# Altium integrated library Linear Technology Power Management System Supervisor, Monitor and Control.IntLib: 1611 symbols (part 65 of 100)
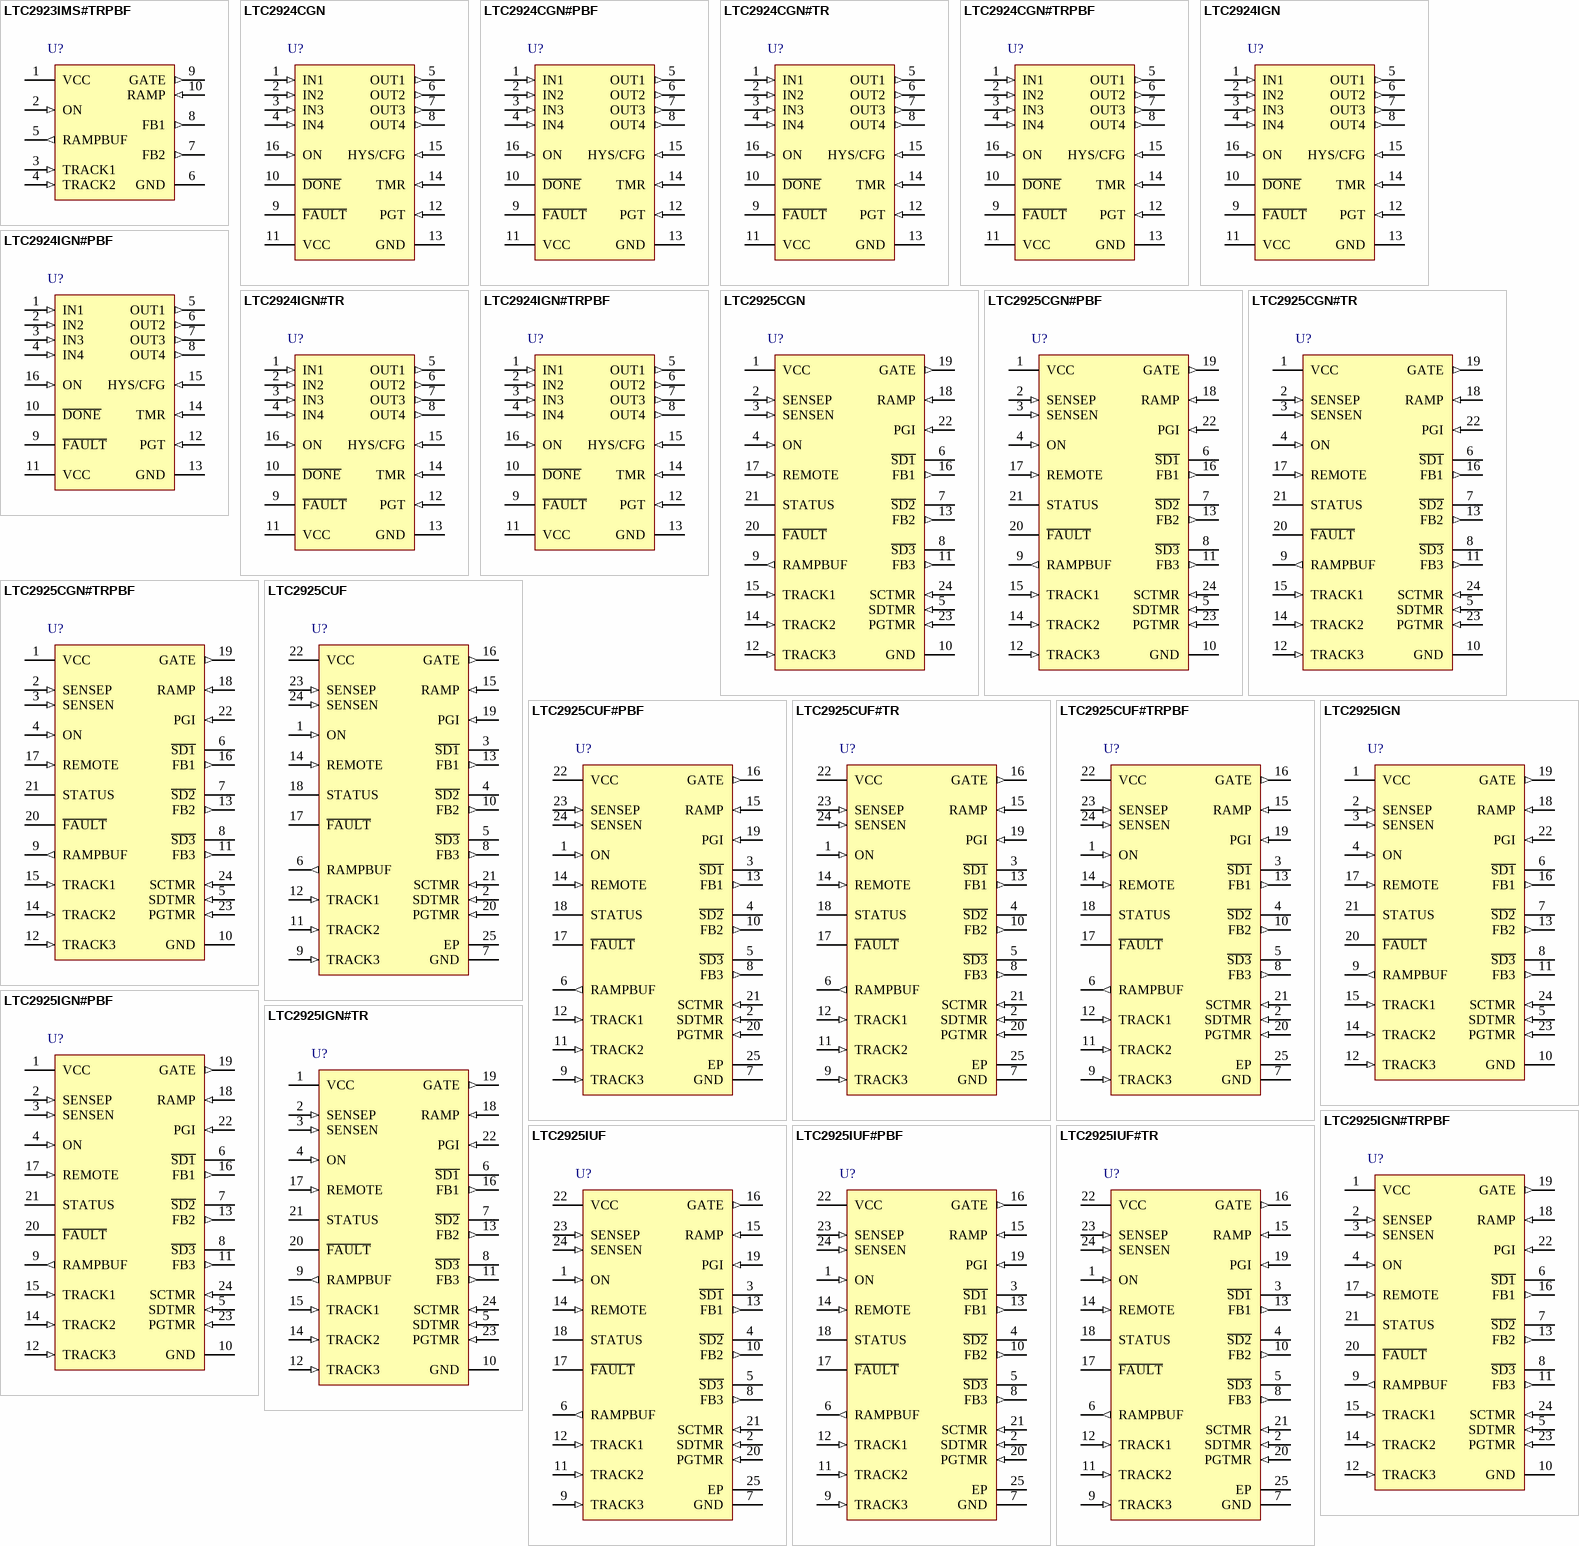
[diagram p109: symbols LTC2923IMS#TRPBF to LTC2925IUF#TR]

## LTC2925IGN
designator U?
Multiple Power Supply Tracking Controller with Power Good Timeout, 24-pin SOP (GN-24), -40 to 85 degC; Manufacturer: Linear Technology; PartNumber: LTC2925IGN; Number of Supplies(#): 4; DatasheetVersion: Rev. C; PackageVersion: Rev. B, 03/2012; PackageReference: GN24; PackageDescription: 24-Pin Plastic SSOP , Body 8.5 x 3.9 mm, Pitch 0.635 mm; Supplier 1: Digi-Key; Supplier Part Number 1: LTC2925IGN-ND; RoHS: FALSE; Mounting Technology: Surface Mount; ComponentLink1Description: Manufacturer URL; ComponentLink1URL: http://www.linear.com/; ComponentLink2Description: Datasheet; ComponentLink2URL: http://cds.linear.com/docs/en/datasheet/2925fc.pdf; ComponentLink3Description: Package Specification; ComponentLink3URL: http://cds.linear.com/docs/en/packaging/05081641_B_GN24.pdf
footprint LT-GN-24_N (SOP, 24-Leads, Body 8.7x4mm, Pitch 0.635mm, IPC Medium Density)
footprint LT-GN-24_L (SOP, 24-Leads, Body 8.7x4mm, Pitch 0.635mm, IPC High Density)
footprint LT-GN-24_M (SOP, 24-Leads, Body 8.7x4mm, Pitch 0.635mm, IPC Low Density)
pins: 1 VCC (power) "Positive Supply Input. The operating supply input range is 2.9V to 5.5V. An undervoltage lockout circuit resets the part when the supply is below 2.5V. VCC should be bypassed to GND with a 0.1uF capacitor", 2 SENSEP (in) "Circuit Breaker Positive Sense Input. SENSEP and SENSEN measure the voltage across the sense resistor and trigger the circuit breaker function when the current exceeds the level programmed by the sense resistor for longer (See Datasheet)", 3 SENSEN (in) "Circuit Breaker Negative Sense Input. SENSEN connects to the low side of the current sense resistor. SENSEP and SENSEN monitor the current through the external FET by measuring the voltage across the sense resistor. The (See Datasheet)", 4 ON (in) "On Control Input. The ON pin has a threshold of 1.23V with 75mV of hysteresis. An active high will cause 10uA to flow from the GATE pin, ramping up the supplies. An active low pulls 10uA from the GATE pin, ramping the (See Datasheet)", 5 SDTMR (in) "Shutdown Timer. A capacitor from SDTMR to GND sets the delay time between the ON pin transitioning high (which releases the S\D\x\ pins) and the supplies beginning to ramp-up. Float SDTMR when it is unused.", 6 ~{SD1} (oc) "Outputs for Slave Supply Shutdowns. The S\D\x\ pins are open-drain outputs that hold the shutdown (RUN/SS) pins of the slave supplies low until the ON pin is pulled above 1.23V. The S\D\x\ pins will be pulled low again when (See Datasheet)", 7 ~{SD2} (oc) "Outputs for Slave Supply Shutdowns. The S\D\x\ pins are open-drain outputs that hold the shutdown (RUN/SS) pins of the slave supplies low until the ON pin is pulled above 1.23V. The S\D\x\ pins will be pulled low again when (See Datasheet)", 8 ~{SD3} (oc) "Outputs for Slave Supply Shutdowns. The S\D\x\ pins are open-drain outputs that hold the shutdown (RUN/SS) pins of the slave supplies low until the ON pin is pulled above 1.23V. The S\D\x\ pins will be pulled low again when (See Datasheet)", 9 RAMPBUF (out) "Ramp Buffer Output. Provides a low impedance buffered version of the signal on the RAMP pin. This buffered output drives the resistive dividers that connect to the TRACKx pins. Limit the capacitance at the RAMPBUF pin to (See Datasheet)", 10 GND (power) "Circuit Ground", 11 FB3 (out) "Feedback Control Output. FBx connects to the feedback node of slave supplies. Tracking is achieved by mirroring the current from TRACKx into FBx. If the appropriate resistive divider connects RAMPBUF and TRACKx, the FBx (See Datasheet)", 12 TRACK3 (in) "Tracking Control Input Pin. A resistive divider between RAMPBUF, TRACKx and GND determines the tracking profi le of OUTx (see Applications Information). TRACKx pulls up to 0.8V and the current supplied at TRACKx is mirrored (See Datasheet)", 13 FB2 (out) "Feedback Control Output. FBx connects to the feedback node of slave supplies. Tracking is achieved by mirroring the current from TRACKx into FBx. If the appropriate resistive divider connects RAMPBUF and TRACKx, the FBx (See Datasheet)", 14 TRACK2 (in) "Tracking Control Input Pin. A resistive divider between RAMPBUF, TRACKx and GND determines the tracking profi le of OUTx (see Applications Information). TRACKx pulls up to 0.8V and the current supplied at TRACKx is mirrored (See Datasheet)", 15 TRACK1 (in) "Tracking Control Input Pin. A resistive divider between RAMPBUF, TRACKx and GND determines the tracking profi le of OUTx (see Applications Information). TRACKx pulls up to 0.8V and the current supplied at TRACKx is mirrored (See Datasheet)", 16 FB1 (out) "Feedback Control Output. FBx connects to the feedback node of slave supplies. Tracking is achieved by mirroring the current from TRACKx into FBx. If the appropriate resistive divider connects RAMPBUF and TRACKx, the FBx (See Datasheet)", 17 REMOTE (in) "Remote Sense Switch. A 15ohm switch connects REMOTE to RAMP when the GATE is fully enhanced (GATE > RAMP + 4.9V). Otherwise, it presents a high impedance. When the slave supplies track the master supply, REMOTE can be used (See Datasheet)", 18 RAMP (in) "Ramp Buffer Input. When the RAMP pin is connected to the source of the external N-channel FET, the slave supplies track the FET’s source as it ramps up and down. Alternatively, when no external FET is used, the RAMP pi(See Datasheet)", 19 GATE (out) "Gate Drive for External N-Channel FET. When the ON pin is high, an internal 10uA current source charges the gate of the external N-channel MOSFET.A capacitor connected from GATE to GND sets the ramp rate. It is a good (See Datasheet)", 20 ~{FAULT} (oc) "Circuit Breaker and Power Good Timer Fault Output. F\A\U\L\T\ is an open-drain output that pulls low when the electronic circuit breaker is activated or a power good timeout fault is detected. F\A\U\L\T\ is reset by pulling (See Datasheet)", 21 STATUS (hiz) "Power Good Status Indicator. The STATUS pin is an open-drain output that pulls low until GATE has been fully charged at which time all supplies will have reached their final operating voltage.", 22 PGI (in) "Power Good Timer Input. PGI connects to the R\S\T\ pin of the downstream supply monitor. If PGI has not transitioned high within a power good timer cycle (see PGTMR), the F\A\U\L\T\ pin will be pulled low and the supplies (See Datasheet)", 23 PGTMR (in) "Power Good Timer. A capacitor from PGTMR to GND sets the power good timer duration.While ON > 1.23V, the PGTMR pin will pull up to VCC with 10uA. Otherwise, it pulls to GND. If the voltage on the PGTMR pin exceeds 1.23V and (See Datasheet)", 24 SCTMR (in) "Circuit Breaker Timer. A capacitor from SCTMR to GND programs the maximum time that a short circuit can be sustained before GATE is pulled low. When (SENSEP - SENSEN) > 50mV, SCTMR will pull up with 50uA, otherwise it pulls (See Datasheet)"

## LTC2925IGN#PBF
designator U?
Multiple Power Supply Tracking Controller with Power Good Timeout, 24-pin SOP (GN-24), -40 to 85 degC, Pb-Free; Manufacturer: Linear Technology; PartNumber: LTC2925IGN#PBF; Number of Supplies(#): 4; DatasheetVersion: Rev. C; PackageVersion: Rev. B, 03/2012; PackageReference: GN24; PackageDescription: 24-Pin Plastic SSOP , Body 8.5 x 3.9 mm, Pitch 0.635 mm; Supplier 1: Digi-Key; Supplier Part Number 1: LTC2925IGN#PBF-ND; RoHS: TRUE; Mounting Technology: Surface Mount; ComponentLink1Description: Manufacturer URL; ComponentLink1URL: http://www.linear.com/; ComponentLink2Description: Datasheet; ComponentLink2URL: http://cds.linear.com/docs/en/datasheet/2925fc.pdf; ComponentLink3Description: Package Specification; ComponentLink3URL: http://cds.linear.com/docs/en/packaging/05081641_B_GN24.pdf
footprint LT-GN-24_N (SOP, 24-Leads, Body 8.7x4mm, Pitch 0.635mm, IPC Medium Density)
footprint LT-GN-24_L (SOP, 24-Leads, Body 8.7x4mm, Pitch 0.635mm, IPC High Density)
footprint LT-GN-24_M (SOP, 24-Leads, Body 8.7x4mm, Pitch 0.635mm, IPC Low Density)
pins: 1 VCC (power) "Positive Supply Input. The operating supply input range is 2.9V to 5.5V. An undervoltage lockout circuit resets the part when the supply is below 2.5V. VCC should be bypassed to GND with a 0.1uF capacitor", 2 SENSEP (in) "Circuit Breaker Positive Sense Input. SENSEP and SENSEN measure the voltage across the sense resistor and trigger the circuit breaker function when the current exceeds the level programmed by the sense resistor for longer (See Datasheet)", 3 SENSEN (in) "Circuit Breaker Negative Sense Input. SENSEN connects to the low side of the current sense resistor. SENSEP and SENSEN monitor the current through the external FET by measuring the voltage across the sense resistor. The (See Datasheet)", 4 ON (in) "On Control Input. The ON pin has a threshold of 1.23V with 75mV of hysteresis. An active high will cause 10uA to flow from the GATE pin, ramping up the supplies. An active low pulls 10uA from the GATE pin, ramping the (See Datasheet)", 5 SDTMR (in) "Shutdown Timer. A capacitor from SDTMR to GND sets the delay time between the ON pin transitioning high (which releases the S\D\x\ pins) and the supplies beginning to ramp-up. Float SDTMR when it is unused.", 6 ~{SD1} (oc) "Outputs for Slave Supply Shutdowns. The S\D\x\ pins are open-drain outputs that hold the shutdown (RUN/SS) pins of the slave supplies low until the ON pin is pulled above 1.23V. The S\D\x\ pins will be pulled low again when (See Datasheet)", 7 ~{SD2} (oc) "Outputs for Slave Supply Shutdowns. The S\D\x\ pins are open-drain outputs that hold the shutdown (RUN/SS) pins of the slave supplies low until the ON pin is pulled above 1.23V. The S\D\x\ pins will be pulled low again when (See Datasheet)", 8 ~{SD3} (oc) "Outputs for Slave Supply Shutdowns. The S\D\x\ pins are open-drain outputs that hold the shutdown (RUN/SS) pins of the slave supplies low until the ON pin is pulled above 1.23V. The S\D\x\ pins will be pulled low again when (See Datasheet)", 9 RAMPBUF (out) "Ramp Buffer Output. Provides a low impedance buffered version of the signal on the RAMP pin. This buffered output drives the resistive dividers that connect to the TRACKx pins. Limit the capacitance at the RAMPBUF pin to (See Datasheet)", 10 GND (power) "Circuit Ground", 11 FB3 (out) "Feedback Control Output. FBx connects to the feedback node of slave supplies. Tracking is achieved by mirroring the current from TRACKx into FBx. If the appropriate resistive divider connects RAMPBUF and TRACKx, the FBx (See Datasheet)", 12 TRACK3 (in) "Tracking Control Input Pin. A resistive divider between RAMPBUF, TRACKx and GND determines the tracking profi le of OUTx (see Applications Information). TRACKx pulls up to 0.8V and the current supplied at TRACKx is mirrored (See Datasheet)", 13 FB2 (out) "Feedback Control Output. FBx connects to the feedback node of slave supplies. Tracking is achieved by mirroring the current from TRACKx into FBx. If the appropriate resistive divider connects RAMPBUF and TRACKx, the FBx (See Datasheet)", 14 TRACK2 (in) "Tracking Control Input Pin. A resistive divider between RAMPBUF, TRACKx and GND determines the tracking profi le of OUTx (see Applications Information). TRACKx pulls up to 0.8V and the current supplied at TRACKx is mirrored (See Datasheet)", 15 TRACK1 (in) "Tracking Control Input Pin. A resistive divider between RAMPBUF, TRACKx and GND determines the tracking profi le of OUTx (see Applications Information). TRACKx pulls up to 0.8V and the current supplied at TRACKx is mirrored (See Datasheet)", 16 FB1 (out) "Feedback Control Output. FBx connects to the feedback node of slave supplies. Tracking is achieved by mirroring the current from TRACKx into FBx. If the appropriate resistive divider connects RAMPBUF and TRACKx, the FBx (See Datasheet)", 17 REMOTE (in) "Remote Sense Switch. A 15ohm switch connects REMOTE to RAMP when the GATE is fully enhanced (GATE > RAMP + 4.9V). Otherwise, it presents a high impedance. When the slave supplies track the master supply, REMOTE can be used (See Datasheet)", 18 RAMP (in) "Ramp Buffer Input. When the RAMP pin is connected to the source of the external N-channel FET, the slave supplies track the FET’s source as it ramps up and down. Alternatively, when no external FET is used, the RAMP pi(See Datasheet)", 19 GATE (out) "Gate Drive for External N-Channel FET. When the ON pin is high, an internal 10uA current source charges the gate of the external N-channel MOSFET.A capacitor connected from GATE to GND sets the ramp rate. It is a good (See Datasheet)", 20 ~{FAULT} (oc) "Circuit Breaker and Power Good Timer Fault Output. F\A\U\L\T\ is an open-drain output that pulls low when the electronic circuit breaker is activated or a power good timeout fault is detected. F\A\U\L\T\ is reset by pulling (See Datasheet)", 21 STATUS (hiz) "Power Good Status Indicator. The STATUS pin is an open-drain output that pulls low until GATE has been fully charged at which time all supplies will have reached their final operating voltage.", 22 PGI (in) "Power Good Timer Input. PGI connects to the R\S\T\ pin of the downstream supply monitor. If PGI has not transitioned high within a power good timer cycle (see PGTMR), the F\A\U\L\T\ pin will be pulled low and the supplies (See Datasheet)", 23 PGTMR (in) "Power Good Timer. A capacitor from PGTMR to GND sets the power good timer duration.While ON > 1.23V, the PGTMR pin will pull up to VCC with 10uA. Otherwise, it pulls to GND. If the voltage on the PGTMR pin exceeds 1.23V and (See Datasheet)", 24 SCTMR (in) "Circuit Breaker Timer. A capacitor from SCTMR to GND programs the maximum time that a short circuit can be sustained before GATE is pulled low. When (SENSEP - SENSEN) > 50mV, SCTMR will pull up with 50uA, otherwise it pulls (See Datasheet)"

## LTC2925IGN#TR
designator U?
Multiple Power Supply Tracking Controller with Power Good Timeout, 24-pin SOP (GN-24), -40 to 85 degC, Tape and Reel; Manufacturer: Linear Technology; PartNumber: LTC2925IGN#TR; Number of Supplies(#): 4; DatasheetVersion: Rev. C; PackageVersion: Rev. B, 03/2012; PackageReference: GN24; PackageDescription: 24-Pin Plastic SSOP , Body 8.5 x 3.9 mm, Pitch 0.635 mm; Supplier 1: Digi-Key; Supplier Part Number 1: LTC2925IGN#TR-ND; Packing: Tape and Reel; RoHS: FALSE; Mounting Technology: Surface Mount; ComponentLink1Description: Manufacturer URL; ComponentLink1URL: http://www.linear.com/; ComponentLink2Description: Datasheet; ComponentLink2URL: http://cds.linear.com/docs/en/datasheet/2925fc.pdf; ComponentLink3Description: Package Specification; ComponentLink3URL: http://cds.linear.com/docs/en/packaging/05081641_B_GN24.pdf
footprint LT-GN-24_N (SOP, 24-Leads, Body 8.7x4mm, Pitch 0.635mm, IPC Medium Density)
footprint LT-GN-24_L (SOP, 24-Leads, Body 8.7x4mm, Pitch 0.635mm, IPC High Density)
footprint LT-GN-24_M (SOP, 24-Leads, Body 8.7x4mm, Pitch 0.635mm, IPC Low Density)
pins: 1 VCC (power) "Positive Supply Input. The operating supply input range is 2.9V to 5.5V. An undervoltage lockout circuit resets the part when the supply is below 2.5V. VCC should be bypassed to GND with a 0.1uF capacitor", 2 SENSEP (in) "Circuit Breaker Positive Sense Input. SENSEP and SENSEN measure the voltage across the sense resistor and trigger the circuit breaker function when the current exceeds the level programmed by the sense resistor for longer (See Datasheet)", 3 SENSEN (in) "Circuit Breaker Negative Sense Input. SENSEN connects to the low side of the current sense resistor. SENSEP and SENSEN monitor the current through the external FET by measuring the voltage across the sense resistor. The (See Datasheet)", 4 ON (in) "On Control Input. The ON pin has a threshold of 1.23V with 75mV of hysteresis. An active high will cause 10uA to flow from the GATE pin, ramping up the supplies. An active low pulls 10uA from the GATE pin, ramping the (See Datasheet)", 5 SDTMR (in) "Shutdown Timer. A capacitor from SDTMR to GND sets the delay time between the ON pin transitioning high (which releases the S\D\x\ pins) and the supplies beginning to ramp-up. Float SDTMR when it is unused.", 6 ~{SD1} (oc) "Outputs for Slave Supply Shutdowns. The S\D\x\ pins are open-drain outputs that hold the shutdown (RUN/SS) pins of the slave supplies low until the ON pin is pulled above 1.23V. The S\D\x\ pins will be pulled low again when (See Datasheet)", 7 ~{SD2} (oc) "Outputs for Slave Supply Shutdowns. The S\D\x\ pins are open-drain outputs that hold the shutdown (RUN/SS) pins of the slave supplies low until the ON pin is pulled above 1.23V. The S\D\x\ pins will be pulled low again when (See Datasheet)", 8 ~{SD3} (oc) "Outputs for Slave Supply Shutdowns. The S\D\x\ pins are open-drain outputs that hold the shutdown (RUN/SS) pins of the slave supplies low until the ON pin is pulled above 1.23V. The S\D\x\ pins will be pulled low again when (See Datasheet)", 9 RAMPBUF (out) "Ramp Buffer Output. Provides a low impedance buffered version of the signal on the RAMP pin. This buffered output drives the resistive dividers that connect to the TRACKx pins. Limit the capacitance at the RAMPBUF pin to (See Datasheet)", 10 GND (power) "Circuit Ground", 11 FB3 (out) "Feedback Control Output. FBx connects to the feedback node of slave supplies. Tracking is achieved by mirroring the current from TRACKx into FBx. If the appropriate resistive divider connects RAMPBUF and TRACKx, the FBx (See Datasheet)", 12 TRACK3 (in) "Tracking Control Input Pin. A resistive divider between RAMPBUF, TRACKx and GND determines the tracking profi le of OUTx (see Applications Information). TRACKx pulls up to 0.8V and the current supplied at TRACKx is mirrored (See Datasheet)", 13 FB2 (out) "Feedback Control Output. FBx connects to the feedback node of slave supplies. Tracking is achieved by mirroring the current from TRACKx into FBx. If the appropriate resistive divider connects RAMPBUF and TRACKx, the FBx (See Datasheet)", 14 TRACK2 (in) "Tracking Control Input Pin. A resistive divider between RAMPBUF, TRACKx and GND determines the tracking profi le of OUTx (see Applications Information). TRACKx pulls up to 0.8V and the current supplied at TRACKx is mirrored (See Datasheet)", 15 TRACK1 (in) "Tracking Control Input Pin. A resistive divider between RAMPBUF, TRACKx and GND determines the tracking profi le of OUTx (see Applications Information). TRACKx pulls up to 0.8V and the current supplied at TRACKx is mirrored (See Datasheet)", 16 FB1 (out) "Feedback Control Output. FBx connects to the feedback node of slave supplies. Tracking is achieved by mirroring the current from TRACKx into FBx. If the appropriate resistive divider connects RAMPBUF and TRACKx, the FBx (See Datasheet)", 17 REMOTE (in) "Remote Sense Switch. A 15ohm switch connects REMOTE to RAMP when the GATE is fully enhanced (GATE > RAMP + 4.9V). Otherwise, it presents a high impedance. When the slave supplies track the master supply, REMOTE can be used (See Datasheet)", 18 RAMP (in) "Ramp Buffer Input. When the RAMP pin is connected to the source of the external N-channel FET, the slave supplies track the FET’s source as it ramps up and down. Alternatively, when no external FET is used, the RAMP pi(See Datasheet)", 19 GATE (out) "Gate Drive for External N-Channel FET. When the ON pin is high, an internal 10uA current source charges the gate of the external N-channel MOSFET.A capacitor connected from GATE to GND sets the ramp rate. It is a good (See Datasheet)", 20 ~{FAULT} (oc) "Circuit Breaker and Power Good Timer Fault Output. F\A\U\L\T\ is an open-drain output that pulls low when the electronic circuit breaker is activated or a power good timeout fault is detected. F\A\U\L\T\ is reset by pulling (See Datasheet)", 21 STATUS (hiz) "Power Good Status Indicator. The STATUS pin is an open-drain output that pulls low until GATE has been fully charged at which time all supplies will have reached their final operating voltage.", 22 PGI (in) "Power Good Timer Input. PGI connects to the R\S\T\ pin of the downstream supply monitor. If PGI has not transitioned high within a power good timer cycle (see PGTMR), the F\A\U\L\T\ pin will be pulled low and the supplies (See Datasheet)", 23 PGTMR (in) "Power Good Timer. A capacitor from PGTMR to GND sets the power good timer duration.While ON > 1.23V, the PGTMR pin will pull up to VCC with 10uA. Otherwise, it pulls to GND. If the voltage on the PGTMR pin exceeds 1.23V and (See Datasheet)", 24 SCTMR (in) "Circuit Breaker Timer. A capacitor from SCTMR to GND programs the maximum time that a short circuit can be sustained before GATE is pulled low. When (SENSEP - SENSEN) > 50mV, SCTMR will pull up with 50uA, otherwise it pulls (See Datasheet)"

## LTC2925IGN#TRPBF
designator U?
Multiple Power Supply Tracking Controller with Power Good Timeout, 24-pin SOP (GN-24), -40 to 85 degC, Pb-Free, Tape and Reel; Manufacturer: Linear Technology; PartNumber: LTC2925IGN#TRPBF; Number of Supplies(#): 4; DatasheetVersion: Rev. C; PackageVersion: Rev. B, 03/2012; PackageReference: GN24; PackageDescription: 24-Pin Plastic SSOP , Body 8.5 x 3.9 mm, Pitch 0.635 mm; Supplier 1: Digi-Key; Supplier Part Number 1: LTC2925IGN#TRPBF-ND; Packing: Tape and Reel; RoHS: TRUE; Mounting Technology: Surface Mount; ComponentLink1Description: Manufacturer URL; ComponentLink1URL: http://www.linear.com/; ComponentLink2Description: Datasheet; ComponentLink2URL: http://cds.linear.com/docs/en/datasheet/2925fc.pdf; ComponentLink3Description: Package Specification; ComponentLink3URL: http://cds.linear.com/docs/en/packaging/05081641_B_GN24.pdf
footprint LT-GN-24_N (SOP, 24-Leads, Body 8.7x4mm, Pitch 0.635mm, IPC Medium Density)
footprint LT-GN-24_L (SOP, 24-Leads, Body 8.7x4mm, Pitch 0.635mm, IPC High Density)
footprint LT-GN-24_M (SOP, 24-Leads, Body 8.7x4mm, Pitch 0.635mm, IPC Low Density)
pins: 1 VCC (power) "Positive Supply Input. The operating supply input range is 2.9V to 5.5V. An undervoltage lockout circuit resets the part when the supply is below 2.5V. VCC should be bypassed to GND with a 0.1uF capacitor", 2 SENSEP (in) "Circuit Breaker Positive Sense Input. SENSEP and SENSEN measure the voltage across the sense resistor and trigger the circuit breaker function when the current exceeds the level programmed by the sense resistor for longer (See Datasheet)", 3 SENSEN (in) "Circuit Breaker Negative Sense Input. SENSEN connects to the low side of the current sense resistor. SENSEP and SENSEN monitor the current through the external FET by measuring the voltage across the sense resistor. The (See Datasheet)", 4 ON (in) "On Control Input. The ON pin has a threshold of 1.23V with 75mV of hysteresis. An active high will cause 10uA to flow from the GATE pin, ramping up the supplies. An active low pulls 10uA from the GATE pin, ramping the (See Datasheet)", 5 SDTMR (in) "Shutdown Timer. A capacitor from SDTMR to GND sets the delay time between the ON pin transitioning high (which releases the S\D\x\ pins) and the supplies beginning to ramp-up. Float SDTMR when it is unused.", 6 ~{SD1} (oc) "Outputs for Slave Supply Shutdowns. The S\D\x\ pins are open-drain outputs that hold the shutdown (RUN/SS) pins of the slave supplies low until the ON pin is pulled above 1.23V. The S\D\x\ pins will be pulled low again when (See Datasheet)", 7 ~{SD2} (oc) "Outputs for Slave Supply Shutdowns. The S\D\x\ pins are open-drain outputs that hold the shutdown (RUN/SS) pins of the slave supplies low until the ON pin is pulled above 1.23V. The S\D\x\ pins will be pulled low again when (See Datasheet)", 8 ~{SD3} (oc) "Outputs for Slave Supply Shutdowns. The S\D\x\ pins are open-drain outputs that hold the shutdown (RUN/SS) pins of the slave supplies low until the ON pin is pulled above 1.23V. The S\D\x\ pins will be pulled low again when (See Datasheet)", 9 RAMPBUF (out) "Ramp Buffer Output. Provides a low impedance buffered version of the signal on the RAMP pin. This buffered output drives the resistive dividers that connect to the TRACKx pins. Limit the capacitance at the RAMPBUF pin to (See Datasheet)", 10 GND (power) "Circuit Ground", 11 FB3 (out) "Feedback Control Output. FBx connects to the feedback node of slave supplies. Tracking is achieved by mirroring the current from TRACKx into FBx. If the appropriate resistive divider connects RAMPBUF and TRACKx, the FBx (See Datasheet)", 12 TRACK3 (in) "Tracking Control Input Pin. A resistive divider between RAMPBUF, TRACKx and GND determines the tracking profi le of OUTx (see Applications Information). TRACKx pulls up to 0.8V and the current supplied at TRACKx is mirrored (See Datasheet)", 13 FB2 (out) "Feedback Control Output. FBx connects to the feedback node of slave supplies. Tracking is achieved by mirroring the current from TRACKx into FBx. If the appropriate resistive divider connects RAMPBUF and TRACKx, the FBx (See Datasheet)", 14 TRACK2 (in) "Tracking Control Input Pin. A resistive divider between RAMPBUF, TRACKx and GND determines the tracking profi le of OUTx (see Applications Information). TRACKx pulls up to 0.8V and the current supplied at TRACKx is mirrored (See Datasheet)", 15 TRACK1 (in) "Tracking Control Input Pin. A resistive divider between RAMPBUF, TRACKx and GND determines the tracking profi le of OUTx (see Applications Information). TRACKx pulls up to 0.8V and the current supplied at TRACKx is mirrored (See Datasheet)", 16 FB1 (out) "Feedback Control Output. FBx connects to the feedback node of slave supplies. Tracking is achieved by mirroring the current from TRACKx into FBx. If the appropriate resistive divider connects RAMPBUF and TRACKx, the FBx (See Datasheet)", 17 REMOTE (in) "Remote Sense Switch. A 15ohm switch connects REMOTE to RAMP when the GATE is fully enhanced (GATE > RAMP + 4.9V). Otherwise, it presents a high impedance. When the slave supplies track the master supply, REMOTE can be used (See Datasheet)", 18 RAMP (in) "Ramp Buffer Input. When the RAMP pin is connected to the source of the external N-channel FET, the slave supplies track the FET’s source as it ramps up and down. Alternatively, when no external FET is used, the RAMP pi(See Datasheet)", 19 GATE (out) "Gate Drive for External N-Channel FET. When the ON pin is high, an internal 10uA current source charges the gate of the external N-channel MOSFET.A capacitor connected from GATE to GND sets the ramp rate. It is a good (See Datasheet)", 20 ~{FAULT} (oc) "Circuit Breaker and Power Good Timer Fault Output. F\A\U\L\T\ is an open-drain output that pulls low when the electronic circuit breaker is activated or a power good timeout fault is detected. F\A\U\L\T\ is reset by pulling (See Datasheet)", 21 STATUS (hiz) "Power Good Status Indicator. The STATUS pin is an open-drain output that pulls low until GATE has been fully charged at which time all supplies will have reached their final operating voltage.", 22 PGI (in) "Power Good Timer Input. PGI connects to the R\S\T\ pin of the downstream supply monitor. If PGI has not transitioned high within a power good timer cycle (see PGTMR), the F\A\U\L\T\ pin will be pulled low and the supplies (See Datasheet)", 23 PGTMR (in) "Power Good Timer. A capacitor from PGTMR to GND sets the power good timer duration.While ON > 1.23V, the PGTMR pin will pull up to VCC with 10uA. Otherwise, it pulls to GND. If the voltage on the PGTMR pin exceeds 1.23V and (See Datasheet)", 24 SCTMR (in) "Circuit Breaker Timer. A capacitor from SCTMR to GND programs the maximum time that a short circuit can be sustained before GATE is pulled low. When (SENSEP - SENSEN) > 50mV, SCTMR will pull up with 50uA, otherwise it pulls (See Datasheet)"

## LTC2925IUF
designator U?
Multiple Power Supply Tracking Controller with Power Good Timeout, 24-pin QFN (UF-24), -40 to 85 degC; Manufacturer: Linear Technology; PartNumber: LTC2925IUF; Number of Supplies(#): 4; DatasheetVersion: Rev. C; PackageVersion: Rev. B, 02/2012; PackageReference: UF24; PackageDescription: 24-Pin Plastic QFN, Body 4 x 4 mm, Pitch 0.5 mm; Supplier 1: Digi-Key; Supplier Part Number 1: LTC2925IUF-ND; RoHS: FALSE; Mounting Technology: Surface Mount; Code_JEDEC: MO-220; ComponentLink1Description: Manufacturer URL; ComponentLink1URL: http://www.linear.com/; ComponentLink2Description: Datasheet; ComponentLink2URL: http://cds.linear.com/docs/en/datasheet/2925fc.pdf; ComponentLink3Description: Package Specification; ComponentLink3URL: http://cds.linear.com/docs/en/packaging/%28UF24%29%20QFN%2005-08-1697%20Rev%20B.pdf
footprint LT-UF-24_N (QFN, 24-Leads, Body 4.1x4.1mm, Pitch 0.5mm, Thermal Pad 2.45x2.45mm, IPC Medium Density)
footprint LT-UF-24_L (QFN, 24-Leads, Body 4.1x4.1mm, Pitch 0.5mm, Thermal Pad 2.45x2.45mm, IPC High Density)
footprint LT-UF-24_M (QFN, 24-Leads, Body 4.1x4.1mm, Pitch 0.5mm, Thermal Pad 2.45x2.45mm, IPC Low Density)
pins: 1 ON (in) "On Control Input. The ON pin has a threshold of 1.23V with 75mV of hysteresis. An active high will cause 10uA to flow from the GATE pin, ramping up the supplies. An active low pulls 10uA from the GATE pin, ramping the (See Datasheet)", 2 SDTMR (in) "Shutdown Timer. A capacitor from SDTMR to GND sets the delay time between the ON pin transitioning high (which releases the S\D\x\ pins) and the supplies beginning to ramp-up. Float SDTMR when it is unused.", 3 ~{SD1} (oc) "Outputs for Slave Supply Shutdowns. The S\D\x\ pins are open-drain outputs that hold the shutdown (RUN/SS) pins of the slave supplies low until the ON pin is pulled above 1.23V. The S\D\x\ pins will be pulled low again when (See Datasheet)", 4 ~{SD2} (oc) "Outputs for Slave Supply Shutdowns. The S\D\x\ pins are open-drain outputs that hold the shutdown (RUN/SS) pins of the slave supplies low until the ON pin is pulled above 1.23V. The S\D\x\ pins will be pulled low again when (See Datasheet)", 5 ~{SD3} (oc) "Outputs for Slave Supply Shutdowns. The S\D\x\ pins are open-drain outputs that hold the shutdown (RUN/SS) pins of the slave supplies low until the ON pin is pulled above 1.23V. The S\D\x\ pins will be pulled low again when (See Datasheet)", 6 RAMPBUF (out) "Ramp Buffer Output. Provides a low impedance buffered version of the signal on the RAMP pin. This buffered output drives the resistive dividers that connect to the TRACKx pins. Limit the capacitance at the RAMPBUF pin to (See Datasheet)", 7 GND (power) "Circuit Ground", 8 FB3 (out) "Feedback Control Output. FBx connects to the feedback node of slave supplies. Tracking is achieved by mirroring the current from TRACKx into FBx. If the appropriate resistive divider connects RAMPBUF and TRACKx, the FBx (See Datasheet)", 9 TRACK3 (in) "Tracking Control Input Pin. A resistive divider between RAMPBUF, TRACKx and GND determines the tracking profi le of OUTx (see Applications Information). TRACKx pulls up to 0.8V and the current supplied at TRACKx is mirrored (See Datasheet)", 10 FB2 (out) "Feedback Control Output. FBx connects to the feedback node of slave supplies. Tracking is achieved by mirroring the current from TRACKx into FBx. If the appropriate resistive divider connects RAMPBUF and TRACKx, the FBx (See Datasheet)", 11 TRACK2 (in) "Tracking Control Input Pin. A resistive divider between RAMPBUF, TRACKx and GND determines the tracking profi le of OUTx (see Applications Information). TRACKx pulls up to 0.8V and the current supplied at TRACKx is mirrored (See Datasheet)", 12 TRACK1 (in) "Tracking Control Input Pin. A resistive divider between RAMPBUF, TRACKx and GND determines the tracking profi le of OUTx (see Applications Information). TRACKx pulls up to 0.8V and the current supplied at TRACKx is mirrored (See Datasheet)", 13 FB1 (out) "Feedback Control Output. FBx connects to the feedback node of slave supplies. Tracking is achieved by mirroring the current from TRACKx into FBx. If the appropriate resistive divider connects RAMPBUF and TRACKx, the FBx (See Datasheet)", 14 REMOTE (in) "Remote Sense Switch. A 15ohm switch connects REMOTE to RAMP when the GATE is fully enhanced (GATE > RAMP + 4.9V). Otherwise, it presents a high impedance. When the slave supplies track the master supply, REMOTE can be used (See Datasheet)", 15 RAMP (in) "Ramp Buffer Input. When the RAMP pin is connected to the source of the external N-channel FET, the slave supplies track the FET’s source as it ramps up and down. Alternatively, when no external FET is used, the RAMP pi(See Datasheet)", 16 GATE (out) "Gate Drive for External N-Channel FET. When the ON pin is high, an internal 10uA current source charges the gate of the external N-channel MOSFET.A capacitor connected from GATE to GND sets the ramp rate. It is a good (See Datasheet)", 17 ~{FAULT} (oc) "Circuit Breaker and Power Good Timer Fault Output. F\A\U\L\T\ is an open-drain output that pulls low when the electronic circuit breaker is activated or a power good timeout fault is detected. F\A\U\L\T\ is reset by pulling (See Datasheet)", 18 STATUS (hiz) "Power Good Status Indicator. The STATUS pin is an open-drain output that pulls low until GATE has been fully charged at which time all supplies will have reached their final operating voltage.", 19 PGI (in) "Power Good Timer Input. PGI connects to the R\S\T\ pin of the downstream supply monitor. If PGI has not transitioned high within a power good timer cycle (see PGTMR), the F\A\U\L\T\ pin will be pulled low and the supplies (See Datasheet)", 20 PGTMR (in) "Power Good Timer. A capacitor from PGTMR to GND sets the power good timer duration.While ON > 1.23V, the PGTMR pin will pull up to VCC with 10uA. Otherwise, it pulls to GND. If the voltage on the PGTMR pin exceeds 1.23V and (See Datasheet)", 21 SCTMR (in) "Circuit Breaker Timer. A capacitor from SCTMR to GND programs the maximum time that a short circuit can be sustained before GATE is pulled low. When (SENSEP - SENSEN) > 50mV, SCTMR will pull up with 50uA, otherwise it pulls (See Datasheet)", 22 VCC (power) "Positive Supply Input. The operating supply input range is 2.9V to 5.5V. An undervoltage lockout circuit resets the part when the supply is below 2.5V. VCC should be bypassed to GND with a 0.1uF capacitor", 23 SENSEP (in) "Circuit Breaker Positive Sense Input. SENSEP and SENSEN measure the voltage across the sense resistor and trigger the circuit breaker function when the current exceeds the level programmed by the sense resistor for longer (See Datasheet)", 24 SENSEN (in) "Circuit Breaker Negative Sense Input. SENSEN connects to the low side of the current sense resistor. SENSEP and SENSEN monitor the current through the external FET by measuring the voltage across the sense resistor. The (See Datasheet)", 25 EP (power) "Circuit Ground"

## LTC2925IUF#PBF
designator U?
Multiple Power Supply Tracking Controller with Power Good Timeout, 24-pin QFN (UF-24), -40 to 85 degC, Pb-Free; Manufacturer: Linear Technology; PartNumber: LTC2925IUF#PBF; Number of Supplies(#): 4; DatasheetVersion: Rev. C; PackageVersion: Rev. B, 02/2012; PackageReference: UF24; PackageDescription: 24-Pin Plastic QFN, Body 4 x 4 mm, Pitch 0.5 mm; Supplier 1: Digi-Key; Supplier Part Number 1: LTC2925IUF#PBF-ND; RoHS: TRUE; Mounting Technology: Surface Mount; Code_JEDEC: MO-220; ComponentLink1Description: Manufacturer URL; ComponentLink1URL: http://www.linear.com/; ComponentLink2Description: Datasheet; ComponentLink2URL: http://cds.linear.com/docs/en/datasheet/2925fc.pdf; ComponentLink3Description: Package Specification; ComponentLink3URL: http://cds.linear.com/docs/en/packaging/%28UF24%29%20QFN%2005-08-1697%20Rev%20B.pdf
footprint LT-UF-24_N (QFN, 24-Leads, Body 4.1x4.1mm, Pitch 0.5mm, Thermal Pad 2.45x2.45mm, IPC Medium Density)
footprint LT-UF-24_L (QFN, 24-Leads, Body 4.1x4.1mm, Pitch 0.5mm, Thermal Pad 2.45x2.45mm, IPC High Density)
footprint LT-UF-24_M (QFN, 24-Leads, Body 4.1x4.1mm, Pitch 0.5mm, Thermal Pad 2.45x2.45mm, IPC Low Density)
pins: 1 ON (in) "On Control Input. The ON pin has a threshold of 1.23V with 75mV of hysteresis. An active high will cause 10uA to flow from the GATE pin, ramping up the supplies. An active low pulls 10uA from the GATE pin, ramping the (See Datasheet)", 2 SDTMR (in) "Shutdown Timer. A capacitor from SDTMR to GND sets the delay time between the ON pin transitioning high (which releases the S\D\x\ pins) and the supplies beginning to ramp-up. Float SDTMR when it is unused.", 3 ~{SD1} (oc) "Outputs for Slave Supply Shutdowns. The S\D\x\ pins are open-drain outputs that hold the shutdown (RUN/SS) pins of the slave supplies low until the ON pin is pulled above 1.23V. The S\D\x\ pins will be pulled low again when (See Datasheet)", 4 ~{SD2} (oc) "Outputs for Slave Supply Shutdowns. The S\D\x\ pins are open-drain outputs that hold the shutdown (RUN/SS) pins of the slave supplies low until the ON pin is pulled above 1.23V. The S\D\x\ pins will be pulled low again when (See Datasheet)", 5 ~{SD3} (oc) "Outputs for Slave Supply Shutdowns. The S\D\x\ pins are open-drain outputs that hold the shutdown (RUN/SS) pins of the slave supplies low until the ON pin is pulled above 1.23V. The S\D\x\ pins will be pulled low again when (See Datasheet)", 6 RAMPBUF (out) "Ramp Buffer Output. Provides a low impedance buffered version of the signal on the RAMP pin. This buffered output drives the resistive dividers that connect to the TRACKx pins. Limit the capacitance at the RAMPBUF pin to (See Datasheet)", 7 GND (power) "Circuit Ground", 8 FB3 (out) "Feedback Control Output. FBx connects to the feedback node of slave supplies. Tracking is achieved by mirroring the current from TRACKx into FBx. If the appropriate resistive divider connects RAMPBUF and TRACKx, the FBx (See Datasheet)", 9 TRACK3 (in) "Tracking Control Input Pin. A resistive divider between RAMPBUF, TRACKx and GND determines the tracking profi le of OUTx (see Applications Information). TRACKx pulls up to 0.8V and the current supplied at TRACKx is mirrored (See Datasheet)", 10 FB2 (out) "Feedback Control Output. FBx connects to the feedback node of slave supplies. Tracking is achieved by mirroring the current from TRACKx into FBx. If the appropriate resistive divider connects RAMPBUF and TRACKx, the FBx (See Datasheet)", 11 TRACK2 (in) "Tracking Control Input Pin. A resistive divider between RAMPBUF, TRACKx and GND determines the tracking profi le of OUTx (see Applications Information). TRACKx pulls up to 0.8V and the current supplied at TRACKx is mirrored (See Datasheet)", 12 TRACK1 (in) "Tracking Control Input Pin. A resistive divider between RAMPBUF, TRACKx and GND determines the tracking profi le of OUTx (see Applications Information). TRACKx pulls up to 0.8V and the current supplied at TRACKx is mirrored (See Datasheet)", 13 FB1 (out) "Feedback Control Output. FBx connects to the feedback node of slave supplies. Tracking is achieved by mirroring the current from TRACKx into FBx. If the appropriate resistive divider connects RAMPBUF and TRACKx, the FBx (See Datasheet)", 14 REMOTE (in) "Remote Sense Switch. A 15ohm switch connects REMOTE to RAMP when the GATE is fully enhanced (GATE > RAMP + 4.9V). Otherwise, it presents a high impedance. When the slave supplies track the master supply, REMOTE can be used (See Datasheet)", 15 RAMP (in) "Ramp Buffer Input. When the RAMP pin is connected to the source of the external N-channel FET, the slave supplies track the FET’s source as it ramps up and down. Alternatively, when no external FET is used, the RAMP pi(See Datasheet)", 16 GATE (out) "Gate Drive for External N-Channel FET. When the ON pin is high, an internal 10uA current source charges the gate of the external N-channel MOSFET.A capacitor connected from GATE to GND sets the ramp rate. It is a good (See Datasheet)", 17 ~{FAULT} (oc) "Circuit Breaker and Power Good Timer Fault Output. F\A\U\L\T\ is an open-drain output that pulls low when the electronic circuit breaker is activated or a power good timeout fault is detected. F\A\U\L\T\ is reset by pulling (See Datasheet)", 18 STATUS (hiz) "Power Good Status Indicator. The STATUS pin is an open-drain output that pulls low until GATE has been fully charged at which time all supplies will have reached their final operating voltage.", 19 PGI (in) "Power Good Timer Input. PGI connects to the R\S\T\ pin of the downstream supply monitor. If PGI has not transitioned high within a power good timer cycle (see PGTMR), the F\A\U\L\T\ pin will be pulled low and the supplies (See Datasheet)", 20 PGTMR (in) "Power Good Timer. A capacitor from PGTMR to GND sets the power good timer duration.While ON > 1.23V, the PGTMR pin will pull up to VCC with 10uA. Otherwise, it pulls to GND. If the voltage on the PGTMR pin exceeds 1.23V and (See Datasheet)", 21 SCTMR (in) "Circuit Breaker Timer. A capacitor from SCTMR to GND programs the maximum time that a short circuit can be sustained before GATE is pulled low. When (SENSEP - SENSEN) > 50mV, SCTMR will pull up with 50uA, otherwise it pulls (See Datasheet)", 22 VCC (power) "Positive Supply Input. The operating supply input range is 2.9V to 5.5V. An undervoltage lockout circuit resets the part when the supply is below 2.5V. VCC should be bypassed to GND with a 0.1uF capacitor", 23 SENSEP (in) "Circuit Breaker Positive Sense Input. SENSEP and SENSEN measure the voltage across the sense resistor and trigger the circuit breaker function when the current exceeds the level programmed by the sense resistor for longer (See Datasheet)", 24 SENSEN (in) "Circuit Breaker Negative Sense Input. SENSEN connects to the low side of the current sense resistor. SENSEP and SENSEN monitor the current through the external FET by measuring the voltage across the sense resistor. The (See Datasheet)", 25 EP (power) "Circuit Ground"

## LTC2925IUF#TR
designator U?
Multiple Power Supply Tracking Controller with Power Good Timeout, 24-pin QFN (UF-24), -40 to 85 degC, Tape and Reel; Manufacturer: Linear Technology; PartNumber: LTC2925IUF#TR; Number of Supplies(#): 4; DatasheetVersion: Rev. C; PackageVersion: Rev. B, 02/2012; PackageReference: UF24; PackageDescription: 24-Pin Plastic QFN, Body 4 x 4 mm, Pitch 0.5 mm; Supplier 1: Digi-Key; Supplier Part Number 1: LTC2925IUF#TR-ND; Packing: Tape and Reel; RoHS: FALSE; Mounting Technology: Surface Mount; Code_JEDEC: MO-220; ComponentLink1Description: Manufacturer URL; ComponentLink1URL: http://www.linear.com/; ComponentLink2Description: Datasheet; ComponentLink2URL: http://cds.linear.com/docs/en/datasheet/2925fc.pdf; ComponentLink3Description: Package Specification; ComponentLink3URL: http://cds.linear.com/docs/en/packaging/%28UF24%29%20QFN%2005-08-1697%20Rev%20B.pdf
footprint LT-UF-24_N (QFN, 24-Leads, Body 4.1x4.1mm, Pitch 0.5mm, Thermal Pad 2.45x2.45mm, IPC Medium Density)
footprint LT-UF-24_L (QFN, 24-Leads, Body 4.1x4.1mm, Pitch 0.5mm, Thermal Pad 2.45x2.45mm, IPC High Density)
footprint LT-UF-24_M (QFN, 24-Leads, Body 4.1x4.1mm, Pitch 0.5mm, Thermal Pad 2.45x2.45mm, IPC Low Density)
pins: 1 ON (in) "On Control Input. The ON pin has a threshold of 1.23V with 75mV of hysteresis. An active high will cause 10uA to flow from the GATE pin, ramping up the supplies. An active low pulls 10uA from the GATE pin, ramping the (See Datasheet)", 2 SDTMR (in) "Shutdown Timer. A capacitor from SDTMR to GND sets the delay time between the ON pin transitioning high (which releases the S\D\x\ pins) and the supplies beginning to ramp-up. Float SDTMR when it is unused.", 3 ~{SD1} (oc) "Outputs for Slave Supply Shutdowns. The S\D\x\ pins are open-drain outputs that hold the shutdown (RUN/SS) pins of the slave supplies low until the ON pin is pulled above 1.23V. The S\D\x\ pins will be pulled low again when (See Datasheet)", 4 ~{SD2} (oc) "Outputs for Slave Supply Shutdowns. The S\D\x\ pins are open-drain outputs that hold the shutdown (RUN/SS) pins of the slave supplies low until the ON pin is pulled above 1.23V. The S\D\x\ pins will be pulled low again when (See Datasheet)", 5 ~{SD3} (oc) "Outputs for Slave Supply Shutdowns. The S\D\x\ pins are open-drain outputs that hold the shutdown (RUN/SS) pins of the slave supplies low until the ON pin is pulled above 1.23V. The S\D\x\ pins will be pulled low again when (See Datasheet)", 6 RAMPBUF (out) "Ramp Buffer Output. Provides a low impedance buffered version of the signal on the RAMP pin. This buffered output drives the resistive dividers that connect to the TRACKx pins. Limit the capacitance at the RAMPBUF pin to (See Datasheet)", 7 GND (power) "Circuit Ground", 8 FB3 (out) "Feedback Control Output. FBx connects to the feedback node of slave supplies. Tracking is achieved by mirroring the current from TRACKx into FBx. If the appropriate resistive divider connects RAMPBUF and TRACKx, the FBx (See Datasheet)", 9 TRACK3 (in) "Tracking Control Input Pin. A resistive divider between RAMPBUF, TRACKx and GND determines the tracking profi le of OUTx (see Applications Information). TRACKx pulls up to 0.8V and the current supplied at TRACKx is mirrored (See Datasheet)", 10 FB2 (out) "Feedback Control Output. FBx connects to the feedback node of slave supplies. Tracking is achieved by mirroring the current from TRACKx into FBx. If the appropriate resistive divider connects RAMPBUF and TRACKx, the FBx (See Datasheet)", 11 TRACK2 (in) "Tracking Control Input Pin. A resistive divider between RAMPBUF, TRACKx and GND determines the tracking profi le of OUTx (see Applications Information). TRACKx pulls up to 0.8V and the current supplied at TRACKx is mirrored (See Datasheet)", 12 TRACK1 (in) "Tracking Control Input Pin. A resistive divider between RAMPBUF, TRACKx and GND determines the tracking profi le of OUTx (see Applications Information). TRACKx pulls up to 0.8V and the current supplied at TRACKx is mirrored (See Datasheet)", 13 FB1 (out) "Feedback Control Output. FBx connects to the feedback node of slave supplies. Tracking is achieved by mirroring the current from TRACKx into FBx. If the appropriate resistive divider connects RAMPBUF and TRACKx, the FBx (See Datasheet)", 14 REMOTE (in) "Remote Sense Switch. A 15ohm switch connects REMOTE to RAMP when the GATE is fully enhanced (GATE > RAMP + 4.9V). Otherwise, it presents a high impedance. When the slave supplies track the master supply, REMOTE can be used (See Datasheet)", 15 RAMP (in) "Ramp Buffer Input. When the RAMP pin is connected to the source of the external N-channel FET, the slave supplies track the FET’s source as it ramps up and down. Alternatively, when no external FET is used, the RAMP pi(See Datasheet)", 16 GATE (out) "Gate Drive for External N-Channel FET. When the ON pin is high, an internal 10uA current source charges the gate of the external N-channel MOSFET.A capacitor connected from GATE to GND sets the ramp rate. It is a good (See Datasheet)", 17 ~{FAULT} (oc) "Circuit Breaker and Power Good Timer Fault Output. F\A\U\L\T\ is an open-drain output that pulls low when the electronic circuit breaker is activated or a power good timeout fault is detected. F\A\U\L\T\ is reset by pulling (See Datasheet)", 18 STATUS (hiz) "Power Good Status Indicator. The STATUS pin is an open-drain output that pulls low until GATE has been fully charged at which time all supplies will have reached their final operating voltage.", 19 PGI (in) "Power Good Timer Input. PGI connects to the R\S\T\ pin of the downstream supply monitor. If PGI has not transitioned high within a power good timer cycle (see PGTMR), the F\A\U\L\T\ pin will be pulled low and the supplies (See Datasheet)", 20 PGTMR (in) "Power Good Timer. A capacitor from PGTMR to GND sets the power good timer duration.While ON > 1.23V, the PGTMR pin will pull up to VCC with 10uA. Otherwise, it pulls to GND. If the voltage on the PGTMR pin exceeds 1.23V and (See Datasheet)", 21 SCTMR (in) "Circuit Breaker Timer. A capacitor from SCTMR to GND programs the maximum time that a short circuit can be sustained before GATE is pulled low. When (SENSEP - SENSEN) > 50mV, SCTMR will pull up with 50uA, otherwise it pulls (See Datasheet)", 22 VCC (power) "Positive Supply Input. The operating supply input range is 2.9V to 5.5V. An undervoltage lockout circuit resets the part when the supply is below 2.5V. VCC should be bypassed to GND with a 0.1uF capacitor", 23 SENSEP (in) "Circuit Breaker Positive Sense Input. SENSEP and SENSEN measure the voltage across the sense resistor and trigger the circuit breaker function when the current exceeds the level programmed by the sense resistor for longer (See Datasheet)", 24 SENSEN (in) "Circuit Breaker Negative Sense Input. SENSEN connects to the low side of the current sense resistor. SENSEP and SENSEN monitor the current through the external FET by measuring the voltage across the sense resistor. The (See Datasheet)", 25 EP (power) "Circuit Ground"

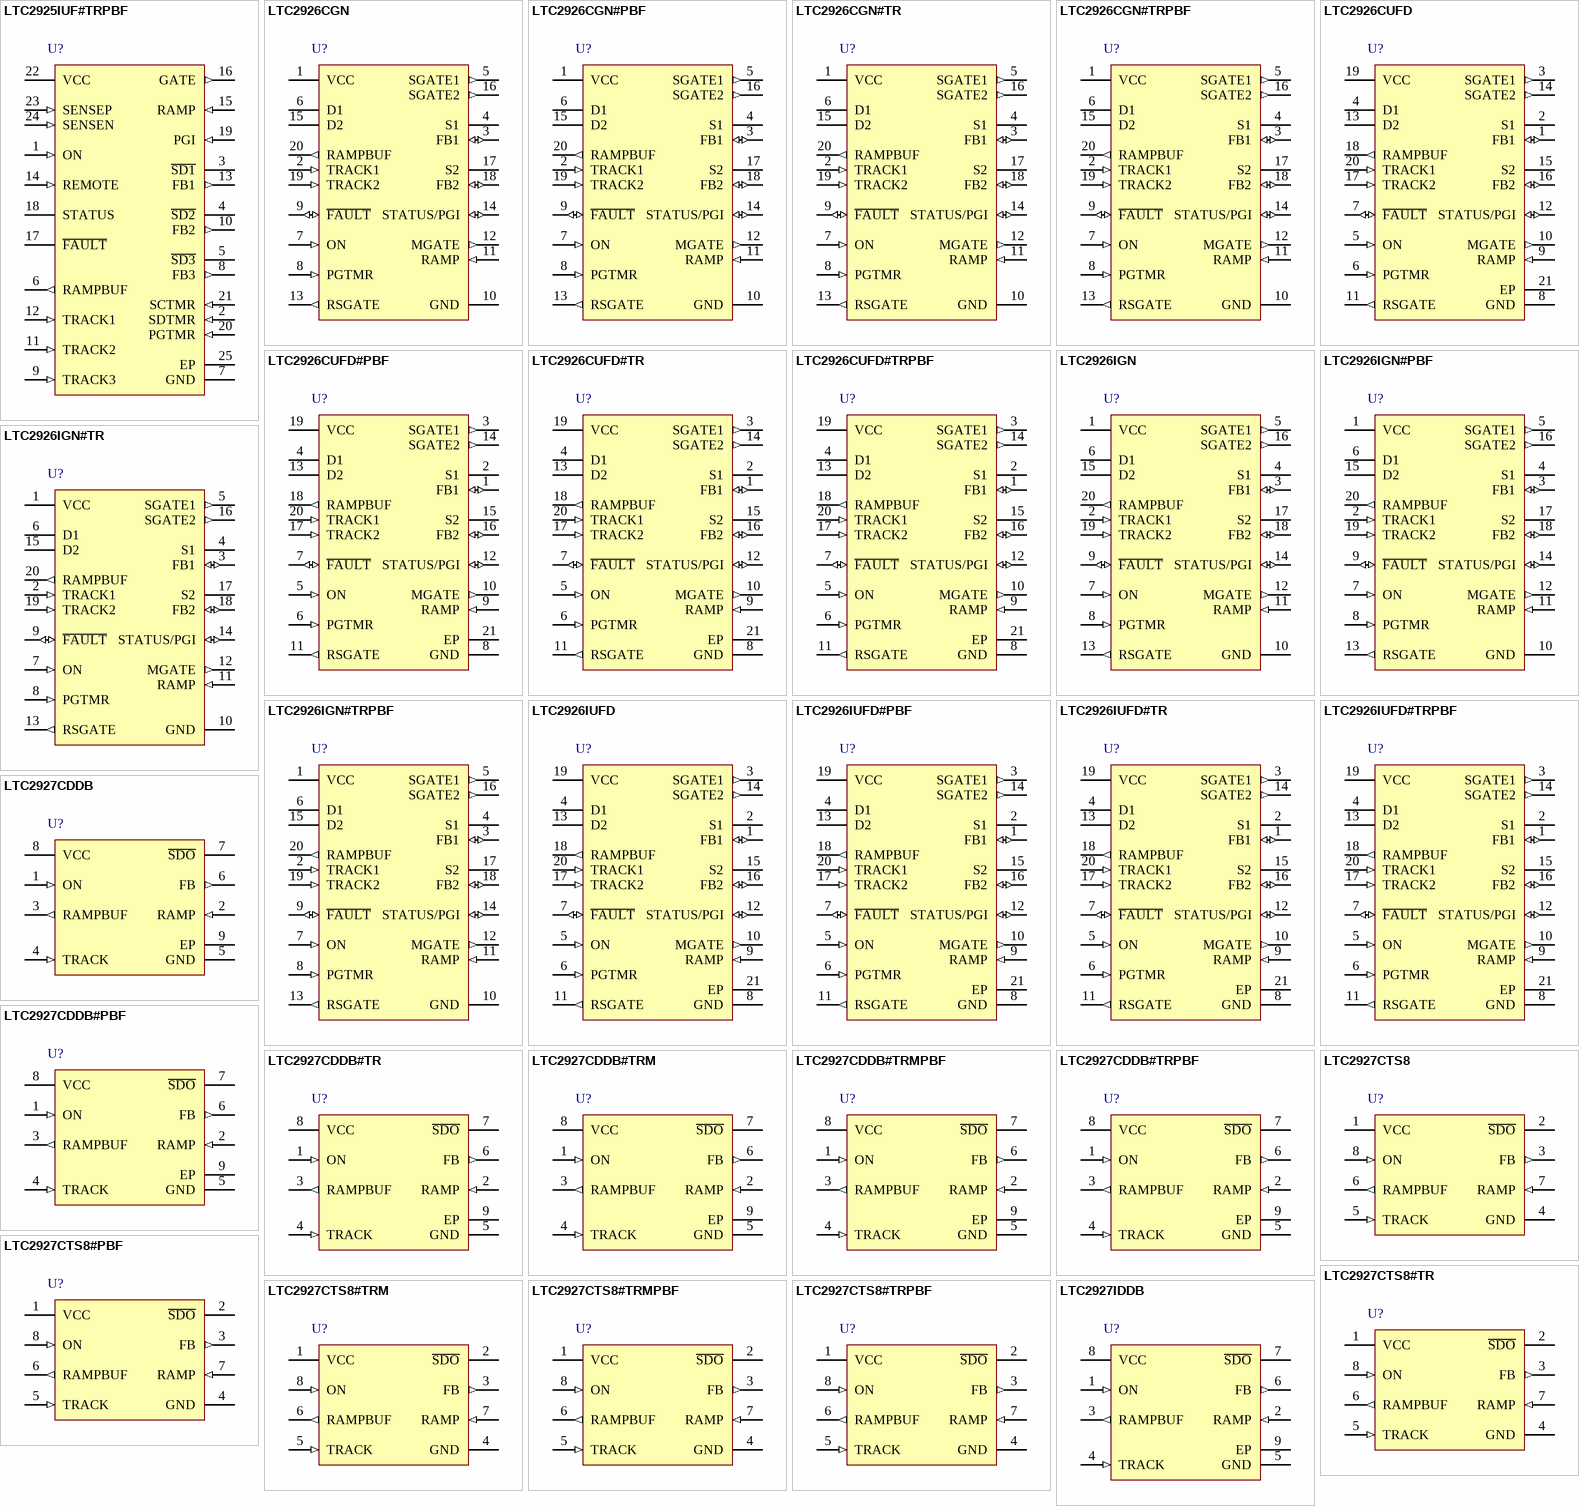
[diagram p30: symbols LTC2925IUF#TRPBF to LTC2927IDDB]